# EAGLE library part IS31FL3733B-TQLS4 (library IS31FL3733B)
IS31FL3733B I2C Based Matrix LED driver. Capable of driving 16x12 matrix, and synchronizing outputs between multiple controllers
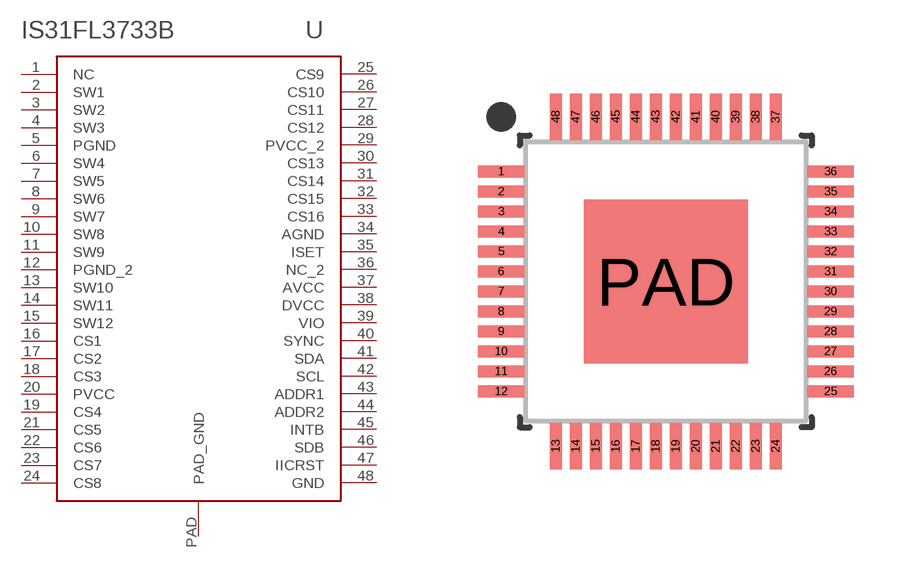
[diagram p0: symbol with the pads of IS31FL3733B-TQLS4; footprint IS31FL3733B-TQLS4]

Designator prefix U

## IS31FL3733B-TQLS4  [IS31FL3733B-TQLS4]
1  NC  nc
2  SW1
3  SW2
4  SW3
5  PGND
6  SW4
7  SW5
8  SW6
9  SW7
10  SW8
11  SW9
12  PGND_2
13  SW10
14  SW11
15  SW12
16  CS1
17  CS2
18  CS3
19  CS4
20  PVCC
21  CS5
22  CS6
23  CS7
24  CS8
25  CS9
26  CS10
27  CS11
28  CS12
29  PVCC_2
30  CS13
31  CS14
32  CS15
33  CS16
34  AGND
35  ISET
36  NC_2  nc
37  AVCC
38  DVCC
39  VIO
40  SYNC
41  SDA
42  SCL
43  ADDR1
44  ADDR2
45  INTB
46  SDB
47  IICRST
48  GND
PAD  PAD_GND

## Footprint IS31FL3733B-TQLS4 (pad centres in mm)
smd 1.17 x 0.3: 1 -4.12,2.75; 2 -4.12,2.25; 3 -4.12,1.75; 4 -4.12,1.25; 5 -4.12,0.75; 6 -4.12,0.25; 7 -4.12,-0.25; 8 -4.12,-0.75; 9 -4.12,-1.25; 10 -4.12,-1.75; 11 -4.12,-2.25; 12 -4.12,-2.75; 25 4.12,-2.75; 26 4.12,-2.25; 27 4.12,-1.75; 28 4.12,-1.25; 29 4.12,-0.75; 30 4.12,-0.25; 31 4.12,0.25; 32 4.12,0.75; 33 4.12,1.25; 34 4.12,1.75; 35 4.12,2.25; 36 4.12,2.75
smd 0.3 x 1.17: 13 -2.75,-4.12; 14 -2.25,-4.12; 15 -1.75,-4.12; 16 -1.25,-4.12; 17 -0.75,-4.12; 18 -0.25,-4.12; 19 0.25,-4.12; 20 0.75,-4.12; 21 1.25,-4.12; 22 1.75,-4.12; 23 2.25,-4.12; 24 2.75,-4.12; 37 2.75,4.12; 38 2.25,4.12; 39 1.75,4.12; 40 1.25,4.12; 41 0.75,4.12; 42 0.25,4.12; 43 -0.25,4.12; 44 -0.75,4.12; 45 -1.25,4.12; 46 -1.75,4.12; 47 -2.25,4.12; 48 -2.75,4.12
smd 4.11 x 4.11: PAD 0,0